# Altium footprint library 61002418221.PcbLib: 1 footprints
Each footprint in its own frame and in the unit in brackets; x right, y up, seen from the top. Pads: shape width x height; smd on the part's side, far side on the other; paste and mask are expansions set on the pad; w line width, h text height; cw(c..) or ccw(c..) is an arc to the next point about the centre after c.
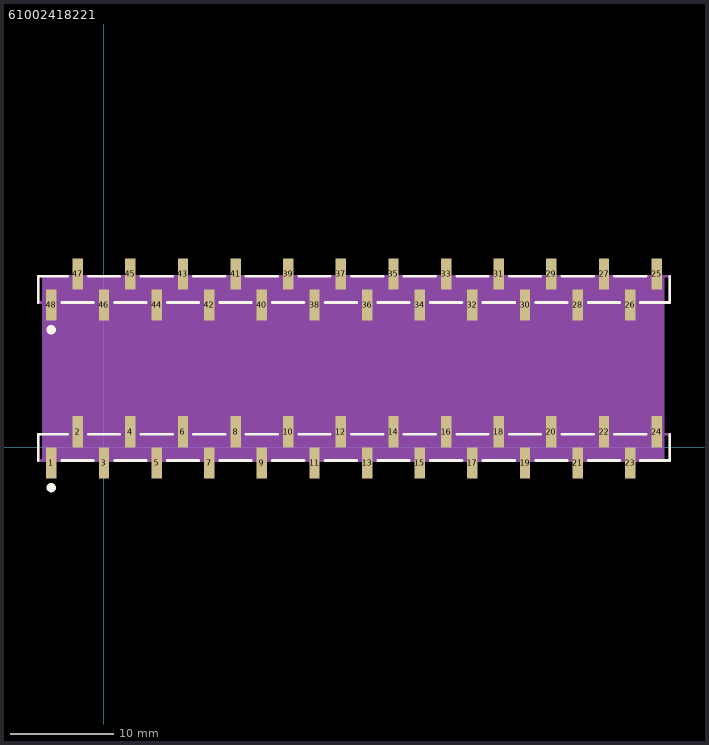
[diagram p0: the footprint, top view; thin cyan lines are the x and y axes]

## 61002418221 [mm]
pads (48):
  rect 1x3 smd: 1(-5.08,-1.5) 2(-2.54,1.5) 3(0,-1.5) 4(2.54,1.5) 5(5.08,-1.5) 6(7.62,1.5) 7(10.16,-1.5) 8(12.7,1.5) 9(15.24,-1.5) 10(17.78,1.5) 11(20.32,-1.5) 12(22.86,1.5) 13(25.4,-1.5) 14(27.94,1.5) 15(30.48,-1.5) 16(33.02,1.5) 17(35.56,-1.5) 18(38.1,1.5) 19(40.64,-1.5) 20(43.18,1.5) 21(45.72,-1.5) 22(48.26,1.5) 23(50.8,-1.5) 24(53.34,1.5) 25(53.34,16.74) 26(50.8,13.74) 27(48.26,16.74) 28(45.72,13.74) 29(43.18,16.74) 30(40.64,13.74) 31(38.1,16.74) 32(35.56,13.74) 33(33.02,16.74) 34(30.48,13.74) 35(27.94,16.74) 36(25.4,13.74) 37(22.86,16.74) 38(20.32,13.74) 39(17.78,16.74) 40(15.24,13.74) 41(12.7,16.74) 42(10.16,13.74) 43(7.62,16.74) 44(5.08,13.74) 45(2.54,16.74) 46(0,13.74) 47(-2.54,16.74) 48(-5.08,13.74)
L26-Silk Screen Top (Multiple PADS layers...):
  circle w0.5: c-5.089,11.344 r0.198
  circle w0.5: c-5.089,-3.896 r0.198
  lines w0.254: -6.35,-1.27 -6.35,1.27 -3.498,1.27 ; -6.35,13.97 -6.35,16.51 -3.498,16.51 ; -4.07,-1.27 -1.01,-1.27 ; -4.07,13.97 -1.01,13.97 ; -1.53,1.27 1.53,1.27 ; -1.53,16.51 1.53,16.51 ; 1.01,-1.27 4.07,-1.27 ; 1.01,13.97 4.07,13.97 ; 3.55,1.27 6.61,1.27 ; 3.55,16.51 6.61,16.51 ; 6.09,-1.27 9.15,-1.27 ; 6.09,13.97 9.15,13.97 ; 8.63,1.27 11.69,1.27 ; 8.63,16.51 11.69,16.51 ; 11.17,-1.27 14.23,-1.27 ; 11.17,13.97 14.23,13.97 ; 13.71,1.27 16.77,1.27 ; 13.71,16.51 16.77,16.51 ; 16.25,-1.27 19.31,-1.27 ; 16.25,13.97 19.31,13.97 ; 18.79,1.27 21.85,1.27 ; 18.79,16.51 21.85,16.51 ; 21.33,-1.27 24.39,-1.27 ; 21.33,13.97 24.39,13.97 ; 23.87,1.27 26.93,1.27 ; 23.87,16.51 26.93,16.51 ; 26.41,-1.27 29.47,-1.27 ; 26.41,13.97 29.47,13.97 ; 28.95,1.27 32.01,1.27 ; 28.95,16.51 32.01,16.51 ; 31.49,-1.27 34.55,-1.27 ; 31.49,13.97 34.55,13.97 ; 34.03,1.27 37.09,1.27 ; 34.03,16.51 37.09,16.51 ; 36.57,-1.27 39.63,-1.27 ; 36.57,13.97 39.63,13.97 ; 39.11,1.27 42.17,1.27 ; 39.11,16.51 42.17,16.51 ; 41.65,-1.27 44.71,-1.27 ; 41.65,13.97 44.71,13.97 ; 44.19,1.27 47.25,1.27 ; 44.19,16.51 47.25,16.51 ; 46.73,-1.27 49.79,-1.27 ; 46.73,13.97 49.79,13.97 ; 49.27,1.27 52.33,1.27 ; 49.27,16.51 52.33,16.51 ; 51.757,-1.27 54.61,-1.27 54.61,1.27 ; 51.757,13.97 54.61,13.97 54.61,16.51
L15 (Multiple PADS layers...):
  rectangle: -5.969,-1.27 54.102,16.51
  lines w0.254: -6.35,-1.27 54.61,-1.27 54.61,1.27 -6.35,1.27 -6.35,-1.27 ; -6.35,13.97 -6.35,16.51 54.61,16.51 54.61,13.97 -6.35,13.97